# Altium integrated library pj-002bh.IntLib: 1 symbol
Pins are listed as number, name and electrical type; pins without a type are passive.

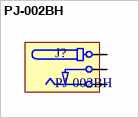
[diagram p0: symbol PJ-002BH]

## PJ-002BH
designator J?
Supplier Part Number 2: CP-002BH-ND; Supplier 2: Digi-Key; Supplier Part Number 3: 490-PJ-002BH; Supplier Part Number 1: *; Supplier 1: Farnell; Supplier 3: Mouser
footprint PJ-002BH
pins: 1 S (power) "Sleeve (Ground)", 2 T (power) "Tip/Left Channel/(+)", 3 R (power) "Ring/Right Channel/(-)"